# Altium schematic symbol library Sch_Flash.SchLib: 1 symbol
Pins are listed as number, name and electrical type; pins without a type are passive.

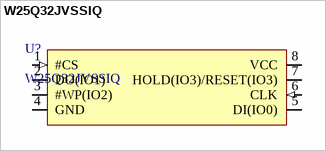
[diagram p0: symbol W25Q32JVSSIQ]

## W25Q32JVSSIQ
designator U?
32Mbit SPI 133MHz SOIC-8-208mil NOR FLASH ROHS; Manufacturer: Winbond; Package Body Material: Plastic; Density: 33554432b; Memory Width: 8; Channels: 1; Memory Size: 4194304; Number of Words Code: 4M; Operating Mode: SYNCHRONOUS; Organization: 4MX8; Parallel/Serial: SERIAL; Programming Voltage: 3V; Max Supply Voltage: 3.6V; Min Supply Voltage: 2.7V; Supplier: Digikey; Supplier Part Number: W25Q32JVSSIQ-ND; Manufacturer Part Number: W25Q32JVSSIQ; RoHS: Yes; Category: Flash; Stock: 47188; Pricing: 1=0.68, 10=0.643, 25=0.6256, 90=0.60067, 180=0.58722, 270=0.57926, 540=0.5657, 1080=0.55219, 5040=0.52246 (USD); Case/Package: SOP; Pins: 8; Package Shape: Square; Terminal Finish: Tin; Min Operating Temperature: -40°C; Max Operating Temperature: 85°C; JESD-609 Code: e3; Memory Format: FLASH; Type: NOR TYPE; Clock Frequency: 133MHz; JESD-30 Code: S-PDSO-G8; Package Style: SMALL OUTLINEMeter; Peak Reflow Temperature (Cel): 260°C; Nominal Supply Voltage: 3V; Surface Mount: Yes; Technology: CMOS; Terminal Form: Gull Wing; Terminal Position: DUAL; Length: 5.28mm; Width: 5.28mm; Height - Seated (Max): 2.16mm; Terminal Pitch: 1.27mm; Temperature Grade: INDUSTRIAL; Reach SVHC Compliant: Yes; RoHS Compliant: Yes; ComponentLink1URL: https://datasheet.ciiva.com:443/pdfs/VipMasterIC/IC/WBND/WBND-S-A0007810393/WBND-S-A0007810393-1.pdf?src-supplier=IHS+Markit; ComponentLink1Description: https://datasheet.ciiva.com:443/pdfs/VipMasterIC/IC/WBND/WBND-S-A0007810393/WBND-S-A0007810393-1.pdf?src-supplier=IHS+Markit; ComponentLink2URL: https://www.winbond.com/hq/product/code-storage-flash-memory/serial-nor-flash/?__locale=en&partNo=W25Q32JV&src-supplier=Avnet; ComponentLink2Description: https://www.winbond.com/hq/product/code-storage-flash-memory/serial-nor-flash/?__locale=en&partNo=W25Q32JV&src-supplier=Avnet; LCSC Part #: C179173
footprint SOIC-8_5P28X5P28_WIN
pins: 1 #CS (in), 2 DO(IO1) (io), 3 #WP(IO2) (io), 4 GND (power), 5 DI(IO0) (io), 6 CLK (in), 7 HOLD(IO3)/RESET(IO3) (io), 8 VCC (power)